# Altium footprint library 787873054.PcbLib: 1 footprints
Each footprint in its own frame and in the unit in brackets; x right, y up, seen from the top. Pads: shape width x height; smd on the part's side, far side on the other; paste and mask are expansions set on the pad; w line width, h text height; cw(c..) or ccw(c..) is an arc to the next point about the centre after c.
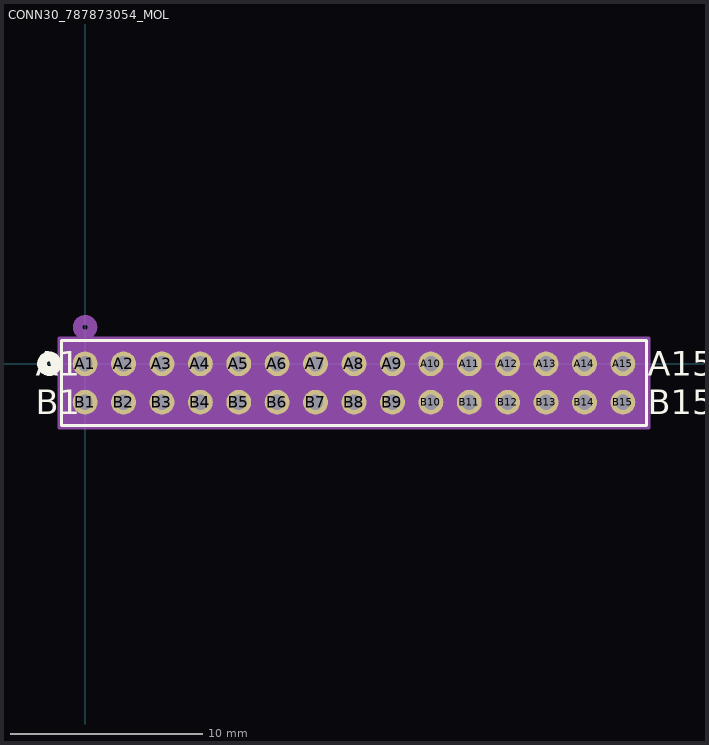
[diagram p0: the footprint, top view; thin cyan lines are the x and y axes]

## CONN30_787873054_MOL [mil]
pads (30):
  round 51 / inner round 60 / far side round 51 hole 31 paste-25.5 mask+0: A1(0,0) A2(78.74,0) A3(157.48,0) A4(236.22,0) A5(314.96,0) A6(393.7,0) A7(472.44,0) A8(551.18,0) A9(629.92,0) A10(708.66,0) A11(787.4,0) A12(866.14,0) A13(944.88,0) A14(1023.62,0) A15(1102.36,0) B1(0,-78.74) B2(78.74,-78.74) B3(157.48,-78.74) B4(236.22,-78.74) B5(314.96,-78.74) B6(393.7,-78.74) B7(472.44,-78.74) B8(551.18,-78.74) B9(629.92,-78.74) B10(708.66,-78.74) B11(787.4,-78.74) B12(866.14,-78.74) B13(944.88,-78.74) B14(1023.62,-78.74) B15(1102.36,-78.74)
Top Overlay:
  circle w20: c-73.32,0 r15
  lines w6: -48.32,-126.89 1150.68,-126.89 1150.68,48.11 -48.32,48.11 -48.32,-126.89
  text "A1" at -101,-25 h50
  text "B1" at -101,-103.74 h50
  text "A15" at 1153.36,-25 h50
  text "B15" at 1153.36,-103.74 h50
Bottom Overlay:
  circle w20: c-73.32,0 r15
  text "A1" at -51,-25 h50
  text "B1" at -51,-103.74 h50
  text "A15" at 1228.36,-25 h50
  text "B15" at 1228.36,-103.74 h50
Mechanical 13:
  circle w20: c0,75 r15
  lines w1: -43.32,-121.89 1145.68,-121.89 1145.68,43.11 -43.32,43.11 -43.32,-121.89
  text "A1" at -101,-25 h50
  text "B1" at -101,-103.74 h50
  text "A15" at 1153.36,-25 h50
  text "B15" at 1153.36,-103.74 h50
Mechanical 15:
  region: 1155.68,53.11 -53.32,53.11 -53.32,-131.89 1155.68,-131.89
  region: 1145.68,43.11 -43.32,43.11 -43.32,-121.89 1145.68,-121.89
  lines w6: -53.32,-131.89 -53.32,53.11 1155.68,53.11 1155.68,-131.89 -53.32,-131.89